# EAGLE library part TS3A5018RSVR (library mmWAVE)
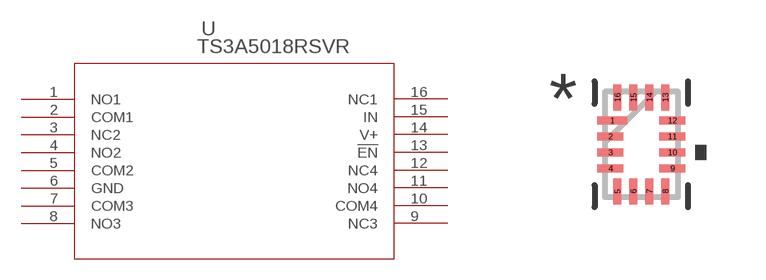
[diagram p8: symbol with the pads of RSV16; footprint RSV16]

Designator prefix U

## TS3A5018RSVR (COPYRIGHT: Copyright (C) 2025 Ultra Librarian. All rights reserved.; MANUFACTURER_PART_NUMBER: TS3A5018RSVR; MFR_NAME: Texas Instruments)  [RSV16]
1  NO1  pas
2  COM1  pas
3  NC2  pas
4  NO2  pas
5  COM2  pas
6  GND  pwr
7  COM3  pas
8  NO3  pas
9  NC3  pas
10  COM4  pas
11  NO4  pas
12  NC4  pas
13  !EN  pas
14  V+  pwr
15  IN  in
16  NC1  pas

## Footprint RSV16 (pad centres in mm)
smd 0.75 x 0.2: 1 -0.724,0.6
smd 0.65 x 0.2: 2 -0.775,0.2; 3 -0.775,-0.2; 4 -0.775,-0.6; 9 0.775,-0.6; 10 0.775,-0.2; 11 0.775,0.2; 12 0.775,0.6
smd 0.2 x 0.65: 5 -0.6,-1.175; 6 -0.2,-1.175; 7 0.2,-1.175; 8 0.6,-1.175; 13 0.6,1.175; 14 0.2,1.175; 15 -0.2,1.175; 16 -0.6,1.175